# EAGLE library part ATSAM4S_LQFP64 (library cvogel)
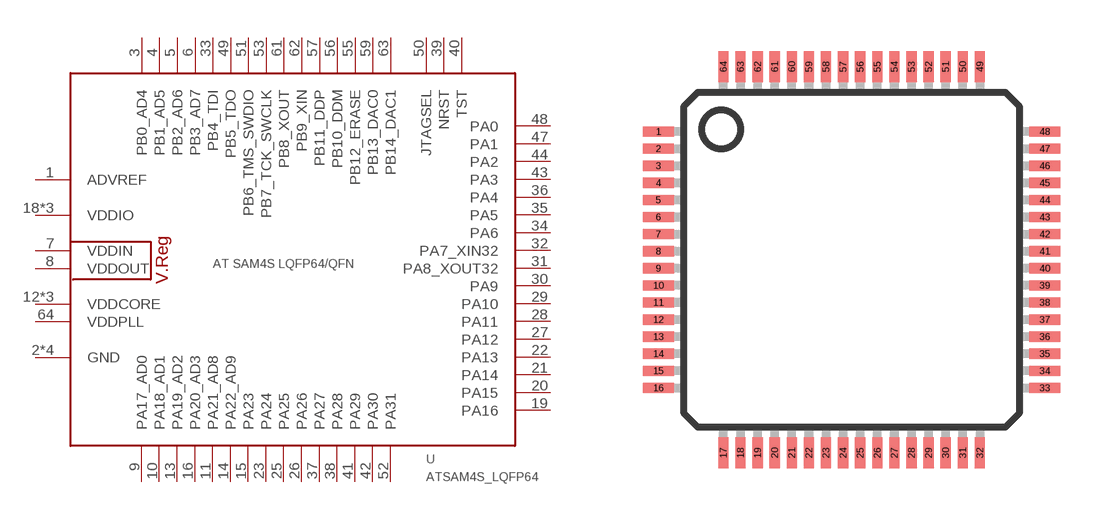
[diagram p11: symbol with the pads of LQFP-ST-64-2; footprint LQFP-ST-64-2]

Designator prefix -

## ATSAM4S_LQFP64  [LQFP-ST-64-2]
1  ADVREF  in
2  GND  sup
3  PB0_AD4
4  PB1_AD5
5  PB2_AD6
6  PB3_AD7
7  VDDIN  in
8  VDDOUT  out
9  PA17_AD0
10  PA18_AD1
11  PA21_AD8
12  VDDCORE  sup
13  PA19_AD2
14  PA22_AD9
15  PA23
16  PA20_AD3
17  GND  sup
18  VDDIO  sup
19  PA16
20  PA15
21  PA14
22  PA13
23  PA24
24  VDDCORE  sup
25  PA25
26  PA26
27  PA12
28  PA11
29  PA10
30  PA9
31  PA8_XOUT32
32  PA7_XIN32
33  PB4_TDI
34  PA6
35  PA5
36  PA4
37  PA27
38  PA28
39  NRST  in
40  TST
41  PA29
42  PA30
43  PA3
44  PA2
45  VDDIO  sup
46  GND  sup
47  PA1
48  PA0
49  PB5_TDO
50  JTAGSEL
51  PB6_TMS_SWDIO
52  PA31
53  PB7_TCK_SWCLK
54  VDDCORE  sup
55  PB12_ERASE
56  PB10_DDM
57  PB11_DDP
58  VDDIO  sup
59  PB13_DAC0
60  GND  sup
61  PB8_XOUT
62  PB9_XIN
63  PB14_DAC1
64  VDDPLL  sup

## Footprint LQFP-ST-64-2 (pad centres in mm)
64-Lead Low Profile Quad Flat Package [LQFP] (ST-64-2) COMPLIANT TO JEDEC STANDARDS MS-026-BCD Source: http://www.analog.com/UploadedFiles/Data_Sheets/288945048AD7C7019_20_1_2_4_5_6_7_0.pdf
smd 0.9 x 0.3: 1 -5.65,3.75; 2 -5.65,3.25; 3 -5.65,2.75; 4 -5.65,2.25; 5 -5.65,1.75; 6 -5.65,1.25; 7 -5.65,0.75; 8 -5.65,0.25; 9 -5.65,-0.25; 10 -5.65,-0.75; 11 -5.65,-1.25; 12 -5.65,-1.75; 13 -5.65,-2.25; 14 -5.65,-2.75; 15 -5.65,-3.25; 16 -5.65,-3.75; 33 5.65,-3.75; 34 5.65,-3.25; 35 5.65,-2.75; 36 5.65,-2.25; 37 5.65,-1.75; 38 5.65,-1.25; 39 5.65,-0.75; 40 5.65,-0.25; 41 5.65,0.25; 42 5.65,0.75; 43 5.65,1.25; 44 5.65,1.75; 45 5.65,2.25; 46 5.65,2.75; 47 5.65,3.25; 48 5.65,3.75
smd 0.3 x 0.9: 17 -3.75,-5.65; 18 -3.25,-5.65; 19 -2.75,-5.65; 20 -2.25,-5.65; 21 -1.75,-5.65; 22 -1.25,-5.65; 23 -0.75,-5.65; 24 -0.25,-5.65; 25 0.25,-5.65; 26 0.75,-5.65; 27 1.25,-5.65; 28 1.75,-5.65; 29 2.25,-5.65; 30 2.75,-5.65; 31 3.25,-5.65; 32 3.75,-5.65; 49 3.75,5.65; 50 3.25,5.65; 51 2.75,5.65; 52 2.25,5.65; 53 1.75,5.65; 54 1.25,5.65; 55 0.75,5.65; 56 0.25,5.65; 57 -0.25,5.65; 58 -0.75,5.65; 59 -1.25,5.65; 60 -1.75,5.65; 61 -2.25,5.65; 62 -2.75,5.65; 63 -3.25,5.65; 64 -3.75,5.65